# Altium footprint library XMAS_2023_PCBlib.PcbLib: 37 footprints (part 2 of 3)
Each footprint in its own frame and in the unit in brackets; x right, y up, seen from the top. Pads: shape width x height; smd on the part's side, far side on the other; paste and mask are expansions set on the pad; w line width, h text height; cw(c..) or ccw(c..) is an arc to the next point about the centre after c.
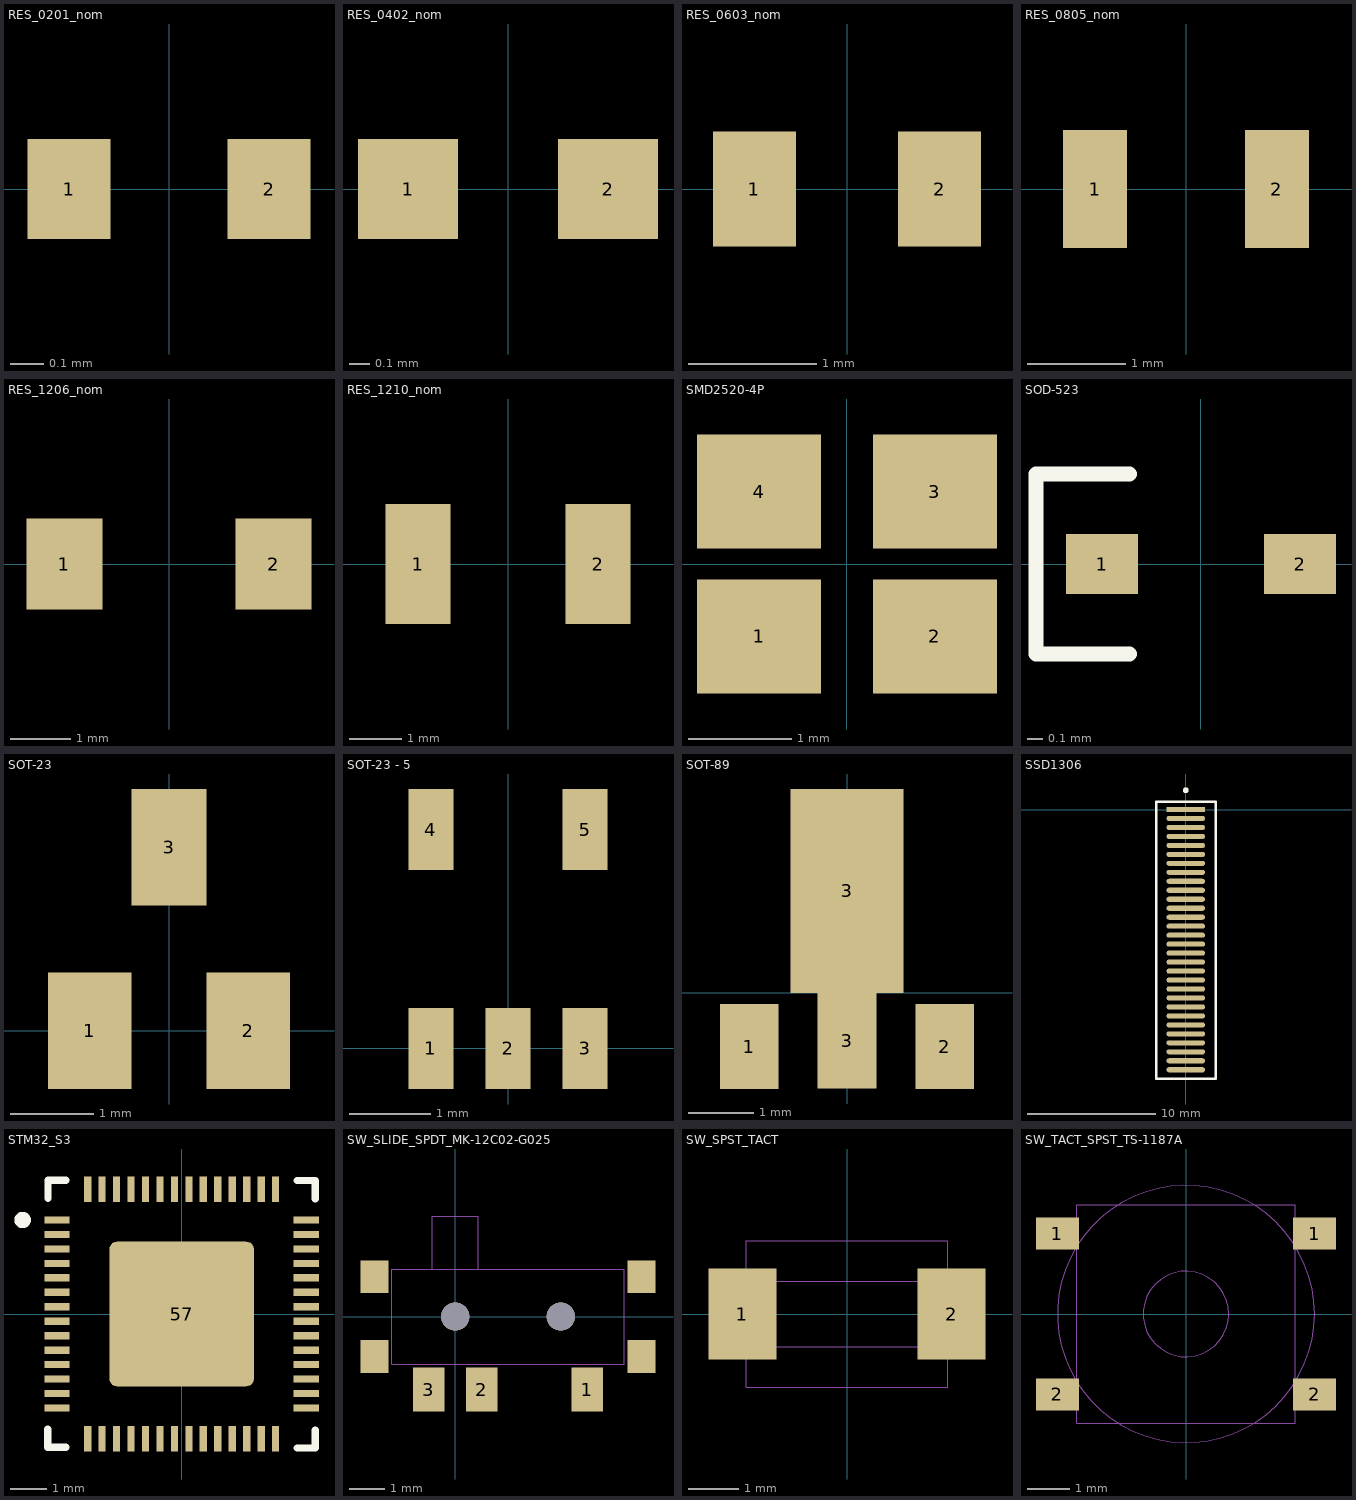
[diagram p1: the footprints below, top view; thin cyan lines are the x and y axes]

## RES_0201_nom [mm]
pads (2):
  rect 0.25x0.3 smd: 1(-0.3,0) 2(0.3,0)
3D body "R0201 ERJ1GN Thick.step": height 0.23, standoff 0, extent -0.3,-0.15 0.3,0.15

## RES_0402_nom [mm]
pads (2):
  rect 0.5x0.5 smd: 1(-0.5,0) 2(0.5,0)
3D body "Resistor_0402.step": height 0.36, standoff 0.01, extent -0.508,-0.254 0.508,0.254

## RES_0603_nom [mm]
pads (2):
  rect 0.65x0.9 smd: 1(-0.725,0) 2(0.725,0)
3D body "Resistor_0603.step": height 0.46, standoff 0.01, extent -0.8,-0.4 0.8,0.4

## RES_0805_nom [mm]
pads (2):
  rect 0.65x1.2 smd: 1(-0.925,0) 2(0.925,0)
3D body "Resistor_0805.step": height 0.51, standoff 0.01, extent -1,-0.625 1,0.625

## RES_1206_nom [mm]
pads (2):
  rect 1.25x1.5 smd: 1(-1.725,0) 2(1.725,0)
3D body "Resistor_1206.step": height 0.61, standoff 0.01, extent -1.6,-0.8 1.6,0.8

## RES_1210_nom [mm]
pads (2):
  rect 1.25x2.3 smd: 1(-1.725,0) 2(1.725,0)
3D body "Resistor_1210.step": height 0.61, standoff 0.01, extent -1.6,-1.25 1.6,1.25

## SMD2520-4P [mm]
pads (4):
  rect 1.2x1.1 smd: 1(-0.85,-0.7) 2(0.85,-0.7) 3(0.85,0.7) 4(-0.85,0.7)
3D body: height 0.55, standoff 0, extent -1.275,-1.025 1.275,1.025

## SOD-523 [mm]
pads (2):
  rect 0.48x0.4 smd mask+0.05: 1(-0.66,0) 2(0.66,0)
Top Overlay:
  lines w0.1: -0.475,-0.6 -1.1,-0.6 -1.1,0.6 -0.475,0.6
3D body "SC-79.stp": height 0.7, standoff 0, extent -0.85,-0.45 0.85,0.45

## SOT-23 [mm]
pads (3):
  rect 1x1.4 smd: 1(-0.95,0) 2(0.95,0)
  rect 0.9x1.4 smd: 3(0,2.2)
3D body "SOT23-3.stp": height 1.2, standoff 0.02, extent -1.5,-0.318 1.5,2.518

## SOT-23 - 5 [mm] "2"
pads (5):
  rect 0.55x1 smd: 1(-0.95,0) 2(0,0) 3(0.95,0) 4(-0.95,2.7) 5(0.95,2.7)
3D body "SOT23-5.stp": height 1.2, standoff 0.02, extent -1.5,-0.018 1.5,2.818

## SOT-89 [mm]
pads (4):
  rect 0.9x1.3 smd mask+0.05: 1(-1.5,-0.825) 2(1.5,-0.825)
  rect 0.9x1.475 smd mask+0.05: 3(0,-0.733)
  rect 1.733x3.125 smd mask+0.05: 3(0,1.562)
3D body "SOT-89.step": height 1.35, standoff 0, extent -2.3,-1.275 2.3,2.975

## SSD1306 [mm]
pads (30):
  rect 3x0.4 smd: 1(0,0)
  oval 3x0.4 smd: 2(0,-0.7) 3(0,-1.4) 4(0,-2.1) 5(0,-2.8) 6(0,-3.5) 7(0,-4.2) 8(0,-4.9) 9(0,-5.6) 10(0,-6.3) 11(0,-7) 12(0,-7.7) 13(0,-8.4) 14(0,-9.1) 15(0,-9.8) 16(0,-10.5) 17(0,-11.2) 18(0,-11.9) 19(0,-12.6) 20(0,-13.3) 21(0,-14) 22(0,-14.7) 23(0,-15.4) 24(0,-16.1) 25(0,-16.8) 26(0,-17.5) 27(0,-18.2) 28(0,-18.9) 29(0,-19.6) 30(0,-20.3)
Top Overlay:
  circle w0.254: c0,1.5 r0.1
  lines w0.2: -2.3,-21 -2.3,0.6 2.335,0.6 2.335,-21 -2.3,-21

## STM32_S3 [mm]
pads (57):
  rect 0.7x0.2 smd mask+0.05: 1(-3.45,2.6) 2(-3.45,2.2) 3(-3.45,1.8) 4(-3.45,1.4) 5(-3.45,1) 6(-3.45,0.6) 7(-3.45,0.2) 8(-3.45,-0.2) 9(-3.45,-0.6) 10(-3.45,-1) 11(-3.45,-1.4) 12(-3.45,-1.8) 13(-3.45,-2.2) 14(-3.45,-2.6) 29(3.45,-2.6) 30(3.45,-2.2) 31(3.45,-1.8) 32(3.45,-1.4) 33(3.45,-1) 34(3.45,-0.6) 35(3.45,-0.2) 36(3.45,0.2) 37(3.45,0.6) 38(3.45,1) 39(3.45,1.4) 40(3.45,1.8) 41(3.45,2.2) 42(3.45,2.6)
  rect 0.2x0.7 smd mask+0.05: 15(-2.6,-3.45) 16(-2.2,-3.45) 17(-1.8,-3.45) 18(-1.4,-3.45) 19(-1,-3.45) 20(-0.6,-3.45) 21(-0.2,-3.45) 22(0.2,-3.45) 23(0.6,-3.45) 24(1,-3.45) 25(1.4,-3.45) 26(1.8,-3.45) 27(2.2,-3.45) 28(2.6,-3.45) 43(2.6,3.45) 44(2.2,3.45) 45(1.8,3.45) 46(1.4,3.45) 47(1,3.45) 48(0.6,3.45) 49(0.2,3.45) 50(-0.2,3.45) 51(-0.6,3.45) 52(-1,3.45) 53(-1.4,3.45) 54(-1.8,3.45) 55(-2.2,3.45) 56(-2.6,3.45)
  rrect10% 4x4 smd: 57(0,0)
Top Overlay:
  circle w0.254: c-4.4,2.6 r0.1
  lines w0.2: -3.703,-3.19 -3.703,-3.69 -3.203,-3.69 ; -3.7,3.2 -3.7,3.7 -3.2,3.7 ; 3.197,-3.71 3.697,-3.71 3.697,-3.21 ; 3.197,3.69 3.697,3.69 3.697,3.19
3D body "ESP32-S3-SOC.STEP": height 0.87, standoff 0, extent -3.501,-3.501 3.501,3.501

## SW_SLIDE_SPDT_MK-12C02-G025 [mm]
pads (9):
  rect 0.9x1.25 smd: 1(3.75,-2.075) 2(0.75,-2.075) 3(-0.75,-2.075)
  rect 0.8x0.93 smd: ""(-2.3,-1.135) ""(-2.3,1.135) ""(5.3,-1.135) ""(5.3,1.135)
  round 0.8 hole 0.8 unplated: ""(0,0) ""(3,0)
Mechanical 1:
  lines w0.01: -1.8,-1.35 4.8,-1.35 4.8,1.35 -1.8,1.35 -1.8,-1.35 ; -0.65,1.35 0.65,1.35 0.65,2.85 -0.65,2.85 -0.65,1.35
3D body: height 1.15, standoff 0.1, extent -0.65,1.35 0.65,2.85
3D body: height 1.4, standoff 0, extent -1.8,-1.35 4.8,1.35

## SW_SPST_TACT [mm]
pads (2):
  rect 1.35x1.8 smd: 1(-2.075,0) 2(2.075,0)
Mechanical 1:
  lines w0.01: -2.4,-0.65 2.4,-0.65 2.4,0.65 -2.4,0.65 -2.4,-0.65 ; -2,-1.45 2,-1.45 2,1.45 -2,1.45 -2,-1.45
3D body: height 0.1, standoff 0, extent -2.4,-0.65 2.4,0.65
3D body: height 2, standoff 0, extent -0.85,-0.841 0.85,0.859
3D body: height 1.5, standoff 0, extent -2,-1.45 2,1.45

## SW_TACT_SPST_TS-1187A [mm] "TS-1187A-B-A-B"
pads (4):
  rect 1x0.75 smd: 1(-3,1.875) 1(3,1.875) 2(-3,-1.875) 2(3,-1.875)
Mechanical 1:
  circle w0.01: c0,0 r1
  circle w0.01: c0,0 r3
  lines w0.01: -2.55,-2.55 2.55,-2.55 2.55,2.55 -2.55,2.55 -2.55,-2.55
3D body: height 1.4, standoff 0, extent -0.965,-1.028 1.035,0.972
3D body: height 1.2, standoff 0.02, extent -2.55,-2.55 2.55,2.55